# Altium schematic symbol library Sch_Reguladores.SchLib: 1 symbol
Pins are listed as number, name and electrical type; pins without a type are passive.

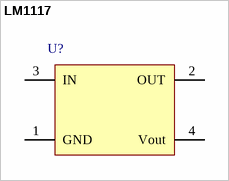
[diagram p0: symbol LM1117]

## LM1117
designator U?
LDO; Link: *; Fabricante: *
pins: 1 GND, 2 OUT, 3 IN, 4 Vout